# EAGLE library part 440BS67082622 (library Wurth_Elektronik_Electromechanic_Switchs_rev15b)
WS-TLT 12x12mm Tact Switch with integrated LED, THT version, 6 pins
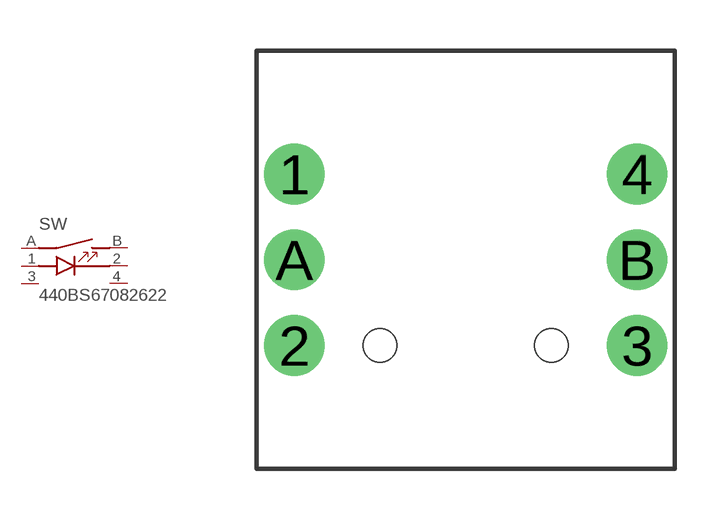
[diagram p168: symbol with the pads of 440BS67082622; footprint 440BS67082622]

Designator prefix SW

## 440BS67082622  [440BS67082622]
1  1  pas
2  2  pas
3  3  nc
4  4  nc
A  A  pas
B  B  pas

## Footprint 440BS67082622 (pad centres in mm)
WS-TLT 12x12mm Tact Switch with integrated LED, THT version, 6 pins
drill 1.2: 1 -5.08,2.54; 2 -5.08,-2.54; 3 5.08,-2.54; 4 5.08,2.54; A -5.08,0; B 5.08,0
hole 1 at -2.54,-2.54
hole 1 at 2.54,-2.54